# Altium schematic symbol library ADC-DAC.SchLib: 2 symbols
Pins are listed as number, name and electrical type; pins without a type are passive.

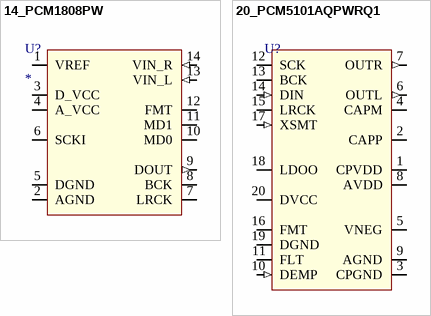
[diagram p0: symbols 14_PCM1808PW to 20_PCM5101AQPWRQ1]

## 14_PCM1808PW
designator U?
ADC, 2 converters, sampling rate = 96kHz, I2S out, Vb = 4.5V-5.5V
footprint TSSOP-14_PCM1808PW (ADC, 2 converters, sampling rate = 96kHz, I2S out, Vb = 4.5V-5.5V)
pins: 1 VREF (power), 2 AGND (power), 3 D_VCC (power), 4 A_VCC (power), 5 DGND (power), 6 SCKI, 7 LRCK (io), 8 BCK, 9 DOUT (out), 10 MD0, 11 MD1, 12 FMT, 13 VIN_L (in), 14 VIN_R (in)

## 20_PCM5101AQPWRQ1
designator U?  (value not drawn)
DAC, 2-outputs, samplingrate = 384KHz, Vb = 3.3V, 2Vrms
footprint TSSOP-20_PCM5101AQPWRQ1 (DAC, 2-outputs, samplingrate = 384KHz, Vb = 3.3V)
pins: 1 CPVDD (power), 2 CAPP, 3 CPGND (power), 4 CAPM, 5 VNEG (power), 6 OUTL (out), 7 OUTR (out), 8 AVDD (power), 9 AGND (power), 10 DEMP (in), 11 FLT, 12 SCK, 13 BCK, 14 DIN (in), 15 LRCK, 16 FMT, 17 XSMT (in), 18 LDOO, 19 DGND (power), 20 DVCC (power)